# Altium footprint library sucaiku.PcbLib: 28 footprints (part 1 of 2)
Each footprint in its own frame and in the unit in brackets; x right, y up, seen from the top. Pads: shape width x height; smd on the part's side, far side on the other; paste and mask are expansions set on the pad; w line width, h text height; cw(c..) or ccw(c..) is an arc to the next point about the centre after c.
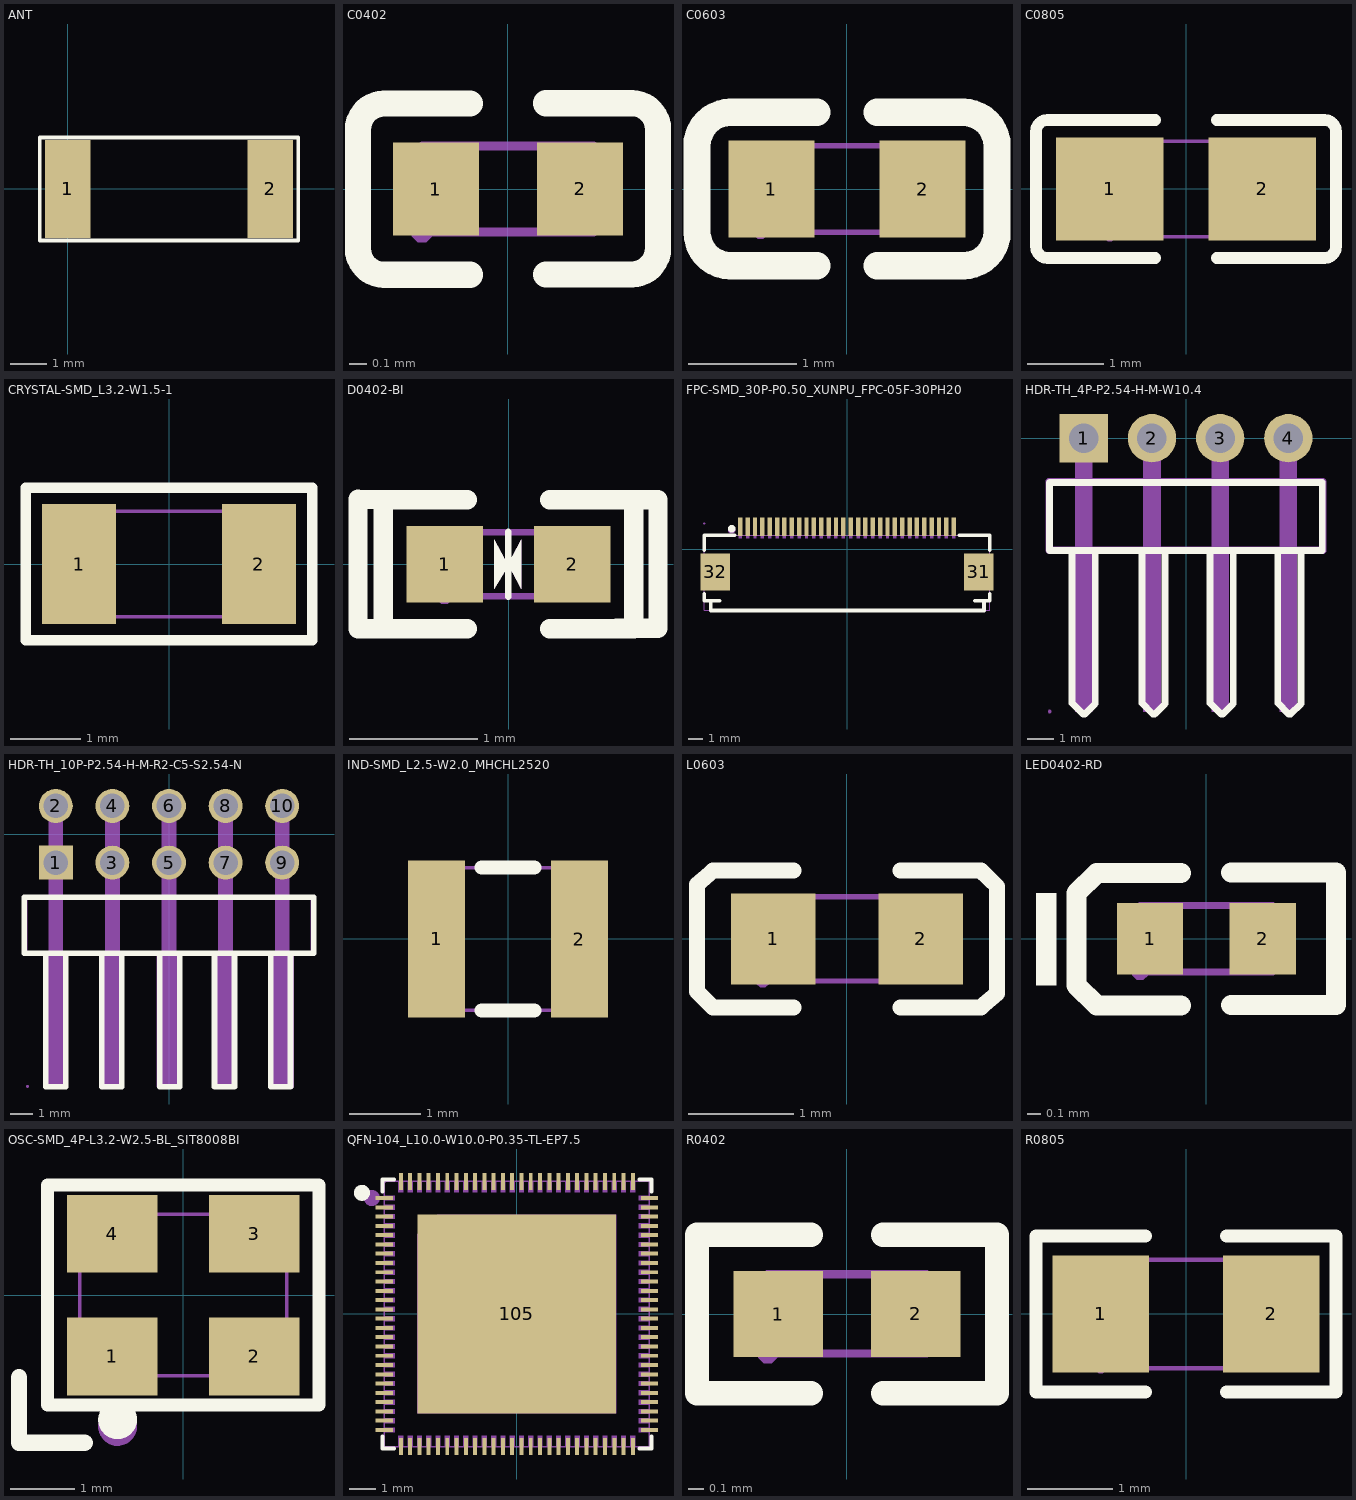
[diagram p0: the footprints below, top view; thin cyan lines are the x and y axes]

## ANT [mm]
pads (2):
  rect 1.225x2.65 smd: 1(0,0) 2(5.5,0)
Top Overlay:
  lines w0.1: -0.762,-1.4 6.262,-1.4 6.262,1.4 -0.762,1.4 -0.762,-1.4

## C0402 [mm]
pads (2):
  rect 0.5x0.54 smd paste+0.051: 1(-0.42,0) 2(0.42,0)
Top Overlay:
  lines w0.152: -0.221,-0.5 -0.721,-0.5 cw(c-0.721,-0.347) -0.874,-0.347 -0.874,0.345 cw(c-0.721,0.345) -0.721,0.498 -0.221,0.498 ; 0.221,-0.498 0.721,-0.498 ccw(c0.721,-0.345) 0.874,-0.345 0.874,0.347 ccw(c0.721,0.347) 0.721,0.5 0.221,0.5
Mechanical 7:
  lines w0.051: -0.5,-0.25 0.5,-0.25 0.5,0.25 -0.5,0.25 -0.5,-0.25
Mechanical 8:
  region: -0.44,-0.25 -0.44,-0.275 -0.475,-0.31 -0.525,-0.31 -0.56,-0.275 -0.56,-0.25 -0.56,-0.225 -0.525,-0.19 -0.475,-0.19 -0.44,-0.225 -0.44,-0.25
Mechanical 9:
  region: 0.5,-0.25 0.5,0.25 0.25,0.25 0.25,-0.25
  region: -0.5,-0.25 -0.5,0.25 -0.25,0.25 -0.25,-0.25

## C0603 [mm]
pads (2):
  rect 0.8x0.9 smd paste+0.051: 1(-0.7,0) 2(0.7,0)
Top Overlay:
  lines w0.254: -1.08,-0.71 -0.28,-0.71 ; -1.08,0.71 -0.28,0.71 ; -1.08,-0.71 cw(c-1.08,-0.4) -1.39,-0.4 -1.39,0.4 cw(c-1.08,0.4) -1.08,0.71 ; 0.28,-0.71 1.08,-0.71 ccw(c1.08,-0.4) 1.39,-0.4 ; 0.28,0.71 1.08,0.71 cw(c1.08,0.4) 1.39,0.4 ; 1.39,-0.4 1.39,0.4
Mechanical 7:
  lines w0.051: -0.8,-0.4 0.8,-0.4 0.8,0.4 -0.8,0.4 -0.8,-0.4
Mechanical 8:
  region: -0.74,-0.4 -0.74,-0.425 -0.775,-0.46 -0.825,-0.46 -0.86,-0.425 -0.86,-0.4 -0.86,-0.375 -0.825,-0.34 -0.775,-0.34 -0.74,-0.375 -0.74,-0.4
Mechanical 9:
  region: 0.8,-0.4 0.8,0.4 0.5,0.4 0.5,-0.4
  region: -0.8,-0.4 -0.8,0.4 -0.5,0.4 -0.5,-0.4

## C0805 [mm]
pads (2):
  rect 1.41x1.35 smd paste-100 mask+0.051: 1(-1,0) 2(1,0)
Top Overlay:
  lines w0.152: -1.964,0.751 cw(c-1.811,0.751) -1.811,0.904 ; -1.964,0.751 -1.964,-0.751 ccw(c-1.811,-0.751) -1.811,-0.904 -0.401,-0.904 ; -1.811,0.904 -0.401,0.904 ; 0.401,-0.904 1.811,-0.904 ccw(c1.811,-0.751) 1.964,-0.751 1.964,0.751 ccw(c1.811,0.751) 1.811,0.904 0.401,0.904
Top Paste:
  region: 1.705,0.64 1.705,-0.64 1.655,-0.69 0.505,-0.69 0.455,-0.64 0.45,-0.23 0.9,-0.23 0.9,0.22 0.46,0.22 0.455,0.64 0.505,0.69 1.655,0.69
  region: -1.705,-0.64 -1.705,0.64 -1.655,0.69 -0.505,0.69 -0.455,0.64 -0.45,0.23 -0.9,0.23 -0.9,-0.22 -0.46,-0.22 -0.455,-0.64 -0.505,-0.69 -1.655,-0.69
Mechanical 7:
  lines w0.051: -1,-0.625 1,-0.625 1,0.625 -1,0.625 -1,-0.625
Mechanical 8:
  region: -0.94,-0.625 -0.94,-0.65 -0.975,-0.685 -1.025,-0.685 -1.06,-0.65 -1.06,-0.625 -1.06,-0.6 -1.025,-0.565 -0.975,-0.565 -0.94,-0.6 -0.94,-0.625
Mechanical 9:
  region: 1,0.625 1,-0.625 0.5,-0.625 0.5,0.625
  region: -1,-0.625 -1,0.625 -0.5,0.625 -0.5,-0.625

## CRYSTAL-SMD_L3.2-W1.5-1 [mm]
height 1
pads (2):
  rect 1.05x1.7 smd paste+0.051: 1(-1.275,0) 2(1.275,0)
Top Overlay:
  lines w0.152: -2.029,-1.079 2.029,-1.079 2.029,1.079 -2.029,1.079 -2.029,-1.079
Mechanical 7:
  lines w0.051: -1.6,-0.75 1.6,-0.75 1.6,0.75 -1.6,0.75 -1.6,-0.75
Mechanical 8:
  region: -1.54,-0.75 -1.54,-0.775 -1.575,-0.81 -1.625,-0.81 -1.66,-0.775 -1.66,-0.75 -1.66,-0.725 -1.625,-0.69 -1.575,-0.69 -1.54,-0.725 -1.54,-0.75
Mechanical 9:
  region: 0.85,0.65 1.45,0.65 1.45,-0.65 0.85,-0.65
  region: -1.45,0.65 -0.85,0.65 -0.85,-0.65 -1.45,-0.65

## D0402-BI [mm]
pads (2):
  rect 0.6x0.6 smd paste-100 mask+0.051: 1(-0.5,0) 2(0.5,0)
Top Overlay:
  region: 0,0 0.1,0.19 0.1,-0.19
  region: 0,-0.01 -0.11,-0.19 -0.11,-0.01 -0.11,0.19
  lines w0.051: 0,-0.254 0,0.254
  lines w0.152: -1.17,-0.504 -0.981,-0.504 ; -0.975,-0.504 -1.178,-0.504 -1.178,0.508 -0.981,0.504 ; -0.324,0.504 -0.981,0.504 ; 0.324,-0.504 0.981,-0.504 0.981,0.504 ; 0.324,0.504 0.981,0.504 ; 0.847,-0.5 1.17,-0.5 1.17,0.504 0.981,0.504 ; -0.981,-0.504 -0.981,0.504 ; -0.981,-0.504 -0.324,-0.504 -0.981,-0.504 ; -0.981,-0.504 -0.981,0.504
Top Paste:
  region: 0.78,0.225 0.78,-0.225 0.73,-0.275 0.25,-0.275 0.18,-0.225 0.18,0.225 0.25,0.275 0.73,0.275
  region: -0.18,0.225 -0.18,-0.225 -0.25,-0.275 -0.73,-0.275 -0.78,-0.225 -0.78,0.225 -0.73,0.275 -0.25,0.275
Mechanical 6:
  region: 0,0 0.1,0.19 0.1,-0.19
  region: 0,-0.01 -0.11,-0.19 -0.11,-0.01 -0.11,0.19
Mechanical 7:
  lines w0.051: -0.5,-0.25 0.5,-0.25 0.5,0.25 -0.5,0.25 -0.5,-0.25
Mechanical 8:
  region: -0.44,-0.25 -0.44,-0.275 -0.475,-0.31 -0.525,-0.31 -0.56,-0.275 -0.56,-0.25 -0.56,-0.225 -0.525,-0.19 -0.475,-0.19 -0.44,-0.225 -0.44,-0.25
Mechanical 9:
  region: 0.25,0.25 0.5,0.25 0.5,-0.25 0.25,-0.25
  region: -0.25,-0.25 -0.5,-0.25 -0.5,0.25 -0.25,0.25

## FPC-SMD_30P-P0.50_XUNPU_FPC-05F-30PH20 [mm]
height 1
pads (32):
  rect 0.3x1.25 smd paste+0 mask+0.05: 1(-7.25,1.538) 2(-6.75,1.538) 3(-6.25,1.538) 4(-5.75,1.538) 5(-5.25,1.538) 6(-4.75,1.538) 7(-4.25,1.538) 8(-3.75,1.538) 9(-3.25,1.538) 10(-2.75,1.538) 11(-2.25,1.538) 12(-1.75,1.538) 13(-1.25,1.538) 14(-0.75,1.538) 15(-0.25,1.538) 16(0.25,1.538) 17(0.75,1.538) 18(1.25,1.538) 19(1.75,1.538) 20(2.25,1.538) 21(2.75,1.538) 22(3.25,1.538) 23(3.75,1.538) 24(4.25,1.538) 25(4.75,1.538) 26(5.25,1.538) 27(5.75,1.538) 28(6.25,1.538) 29(6.75,1.538) 30(7.25,1.538)
  rect 2x2.5 smd paste+0 mask+0.05: 31(8.94,-1.538) 32(-8.94,-1.538)
Top Overlay:
  circle w0.254: c-7.827,1.401 r0.127
  lines w0.254: -9.7,-3.019 -9.7,-3.5 -8.65,-3.5 ; -9.7,-0.056 -9.7,0.95 -7.631,0.95 ; -9.248,-3.5 -9.248,-4.15 9.3,-4.15 9.3,-3.55 ; 7.631,0.95 9.7,0.95 9.7,-0.056 ; 8.7,-3.5 9.7,-3.5 9.7,-3.019
Mechanical 6:
  circle w0.254: c-7.837,1.313 r0.127
Mechanical 7:
  lines w0.051: -9.7,-4.155 -9.7,0.965 9.7,0.965 9.7,-4.155 -9.7,-4.155
Mechanical 8:
  region: -9.64,1.755 -9.64,1.73 -9.675,1.695 -9.725,1.695 -9.76,1.73 -9.76,1.755 -9.76,1.78 -9.725,1.815 -9.675,1.815 -9.64,1.78 -9.64,1.755
Mechanical 9:
  drawing of 32 lines, arcs and shapes, not listed

## HDR-TH_4P-P2.54-H-M-W10.4 [mm]
pads (4):
  rect 1.8x1.8 hole 1.1 paste-2539.97: 1(-3.81,0)
  round 1.8 hole 1.1 paste-2539.97: 2(-1.27,0) 3(1.27,0) 4(3.81,0)
Top Overlay:
  lines w0.254: -5.09,-1.699 -5.09,-4.181 5.07,-4.181 5.07,-1.651 -5.09,-1.651 ; -3.84,-10.273 -4.244,-9.869 ; -3.764,-10.273 -3.383,-9.892 ; -1.644,-4.273 -1.644,-9.869 -1.24,-10.273 ; -1.164,-10.273 -0.783,-9.892 -0.783,-4.273 ; 1.299,-10.273 0.895,-9.869 ; 1.375,-10.273 1.756,-9.892 ; 3.417,-4.273 3.417,-9.869 3.821,-10.273 ; 3.897,-10.273 4.278,-9.892 4.278,-4.273 ; -4.244,-9.869 -4.244,-4.273 -4.244,-9.869 ; -3.383,-9.892 -3.383,-4.273 -3.383,-9.892 ; 0.895,-9.869 0.895,-4.273 0.895,-9.869 ; 1.756,-9.892 1.756,-4.273 1.756,-9.892
Mechanical 6:
  region: -4.973,-1.63 -4.973,-4.053 5.1,-4.053 5.153,-4.053 5.227,-4.127 5.227,-4.233 5.153,-4.307 5.1,-4.307 -5.1,-4.307 -5.125,-4.307 -5.172,-4.288 -5.208,-4.252 -5.227,-4.205 -5.227,-4.18 -5.227,-1.63 -5.227,-1.577 -5.153,-1.503 -5.047,-1.503 -4.973,-1.577 -4.973,-1.63
  region: 4.969,-4.177 4.969,-1.754 -5.104,-1.754 -5.156,-1.754 -5.231,-1.68 -5.231,-1.574 -5.156,-1.5 -5.104,-1.5 5.096,-1.5 5.122,-1.5 5.168,-1.519 5.204,-1.555 5.223,-1.602 5.223,-1.627 5.223,-4.177 5.223,-4.23 5.149,-4.304 5.044,-4.304 4.969,-4.23 4.969,-4.177
Mechanical 7:
  lines w0.051: -5.08,-4.18 5.08,-4.18 5.08,-1.64 -5.08,-1.64 -5.08,-4.18
Mechanical 8:
  region: -5.02,-10.18 -5.02,-10.205 -5.055,-10.24 -5.105,-10.24 -5.14,-10.205 -5.14,-10.18 -5.14,-10.155 -5.105,-10.12 -5.055,-10.12 -5.02,-10.155 -5.02,-10.18
Mechanical 9:
  region: -4.13,0.32 -3.49,0.32 -3.49,-0.32 -4.13,-0.32
  region: -1.59,0.32 -0.95,0.32 -0.95,-0.32 -1.59,-0.32
  region: 0.95,0.32 1.59,0.32 1.59,-0.32 0.95,-0.32
  region: 3.49,0.32 4.13,0.32 4.13,-0.32 3.49,-0.32
Mechanical 10:
  region: 3.49,0.32 3.49,-10.18 4.13,-10.18 4.13,0.32
  region: 0.95,0.32 0.95,-10.18 1.59,-10.18 1.59,0.32
  region: -1.59,0.32 -1.59,-10.18 -0.95,-10.18 -0.95,0.32
  region: -4.13,0.32 -4.13,-10.18 -3.49,-10.18 -3.49,0.32

## HDR-TH_10P-P2.54-H-M-R2-C5-S2.54-N [mil]
pads (10):
  rect 60x60 hole 43.31 paste-99999 mask+1.97: 1(-200,-50)
  round 60 hole 43.31 paste-99999 mask+1.97: 2(-200,50) 3(-100,-50) 4(-100,50) 5(0,-50) 6(0,50) 7(100,-50) 8(100,50) 9(200,-50) 10(200,50)
Top Overlay:
  lines w10: -217.5,-209.84 -217.5,-446.06 -182.29,-446.06 -182.29,-209.84 ; -118.5,-209.84 -118.5,-446.06 -83.29,-446.06 -83.29,-209.84 ; -16.5,-209.84 -16.5,-446.06 18.72,-446.06 18.72,-209.84 ; 80.5,-209.84 80.5,-446.06 115.71,-446.06 115.71,-209.84 ; 179.5,-209.84 179.5,-446.06 214.71,-446.06 214.71,-209.84 ; -255.91,-209.84 255.91,-209.84 255.91,-111.42 -255.91,-111.42 -255.91,-209.84
Mechanical 6:
  drawing of 5 lines, arcs and shapes, not listed
Mechanical 7:
  lines w2: -250,-209.84 -250,-111.41 250,-111.42 250,-209.84 -250,-209.84
Mechanical 8:
  region: -247.64,-445.28 -247.64,-446.25 -249.02,-447.64 -250.98,-447.64 -252.36,-446.25 -252.36,-445.27 -252.36,-444.3 -250.98,-442.91 -249.02,-442.91 -247.64,-444.3 -247.64,-445.28
Mechanical 9:
  region: 187.4,62.6 212.6,62.6 212.6,37.4 187.4,37.4
  region: 187.4,-37.4 212.6,-37.4 212.6,-62.6 187.4,-62.6
  region: 87.4,62.6 112.6,62.6 112.6,37.4 87.4,37.4
  region: 87.4,-37.4 112.6,-37.4 112.6,-62.6 87.4,-62.6
  region: -12.6,-37.4 12.6,-37.4 12.6,-62.6 -12.6,-62.6
  region: -112.6,62.6 -87.4,62.6 -87.4,37.4 -112.6,37.4
  region: -112.6,-37.4 -87.4,-37.4 -87.4,-62.6 -112.6,-62.6
  region: -212.6,62.6 -187.4,62.6 -187.4,37.4 -212.6,37.4
  region: -212.6,-37.4 -187.4,-37.4 -187.4,-62.6 -212.6,-62.6
  region: -12.6,62.6 12.6,62.6 12.6,37.4 -12.6,37.4
Mechanical 10:
  region: -12.6,62.6 12.6,62.6 12.6,-445.27 -12.6,-445.27
  region: -112.6,62.6 -87.4,62.6 -87.4,-445.27 -112.6,-445.28
  region: 87.4,62.6 112.6,62.6 112.6,-445.27 87.4,-445.27
  region: 187.4,62.6 212.6,62.6 212.6,-445.27 187.4,-445.27
  region: -212.6,62.6 -187.4,62.6 -187.4,-445.28 -212.6,-445.27

## IND-SMD_L2.5-W2.0_MHCHL2520 [mm]
pads (2):
  rect 0.8x2.2 smd paste+0.051: 1(-1,0) 2(1,0)
Top Overlay:
  lines w0.2: -0.369,-1 0.369,-1 ; -0.369,1 0.369,1
Mechanical 7:
  lines w0.051: -1.25,-1 -1.25,1 1.25,1 1.25,-1 -1.25,-1
Mechanical 8:
  region: -1.19,-1 -1.19,-1.025 -1.225,-1.06 -1.275,-1.06 -1.31,-1.025 -1.31,-1 -1.31,-0.975 -1.275,-0.94 -1.225,-0.94 -1.19,-0.975 -1.19,-1
Mechanical 9:
  region: -0.65,1 -0.65,-1 -1.25,-1 -1.25,1
  region: 1.25,1 1.25,-1 0.65,-1 0.65,1

## L0603 [mm]
pads (2):
  rect 0.8x0.864 smd paste-100 mask+0.051: 1(-0.7,0) 2(0.7,0)
Top Overlay:
  lines w0.152: -1.272,-0.65 -0.51,-0.65 ; -1.272,0.65 -0.51,0.65 ; -1.27,-0.651 -1.424,-0.499 -1.424,0.517 -1.27,0.65 ; 0.51,-0.65 1.272,-0.65 ; 0.51,0.65 1.272,0.65 ; 1.27,-0.65 1.424,-0.517 1.424,0.499 1.27,0.65
Top Paste:
  region: 0.264,0.154 0.264,-0.122 0.538,-0.416 1.042,-0.416 1.106,-0.352 1.106,0.384 1.042,0.448 0.538,0.448
  region: -0.252,0.143 -0.252,-0.134 -0.526,-0.427 -1.029,-0.427 -1.093,-0.363 -1.093,0.373 -1.029,0.437 -0.526,0.437
Mechanical 7:
  lines w0.051: -0.8,-0.4 -0.8,0.4 0.8,0.4 0.8,-0.4 -0.8,-0.4
Mechanical 8:
  region: -0.74,-0.4 -0.74,-0.425 -0.775,-0.46 -0.825,-0.46 -0.86,-0.425 -0.86,-0.4 -0.86,-0.375 -0.825,-0.34 -0.775,-0.34 -0.74,-0.375 -0.74,-0.4
Mechanical 9:
  region: -0.5,-0.4 -0.8,-0.4 -0.8,0.4 -0.5,0.4
  region: 0.8,-0.4 0.5,-0.4 0.5,0.4 0.8,0.4

## LED0402-RD [mm]
pads (2):
  rect 0.5x0.54 smd paste+0.051: 1(-0.425,0) 2(0.425,0)
Top Overlay:
  region: -1.133,-0.35 -1.132,0.343 -1.285,0.343 -1.285,-0.35
  lines w0.152: -0.191,-0.502 -0.828,-0.502 -0.98,-0.35 -0.98,0.343 -0.828,0.495 -0.191,0.495 ; 0.188,-0.499 0.977,-0.499 0.977,0.499 0.188,0.499
Mechanical 6:
  region: -0.44,-0.03 -0.44,0.03 -0.2,0.03 -0.2,-0.03
  region: 0.44,-0.03 0.44,0.03 0.2,0.03 0.2,-0.03
  region: 0.35,-0.2 0.35,0.2 0.29,0.2 0.29,-0.2
Mechanical 7:
  lines w0.051: -0.5,-0.25 -0.5,0.25 0.5,0.25 0.5,-0.25 -0.5,-0.25
Mechanical 8:
  region: -0.44,-0.25 -0.44,-0.275 -0.475,-0.31 -0.525,-0.31 -0.56,-0.275 -0.56,-0.25 -0.56,-0.225 -0.525,-0.19 -0.475,-0.19 -0.44,-0.225 -0.44,-0.25
Mechanical 9:
  region: -0.5,-0.25 -0.5,0.25 -0.3,0.25 -0.3,-0.25
  region: 0.5,-0.25 0.5,0.25 0.3,0.25 0.3,-0.25

## OSC-SMD_4P-L3.2-W2.5-BL_SIT8008BI [mm]
pads (4):
  rect 1.4x1.2 smd paste+0.051: 1(-1.1,-0.95) 2(1.1,-0.95) 3(1.1,0.95) 4(-1.1,0.95)
Top Overlay:
  lines w0.203: -2.1,-1.7 2.101,-1.7 2.101,1.7 -2.1,1.7 -2.1,-1.7
  lines w0.254: -2.54,-1.27 -2.54,-2.286 -1.524,-2.286
  lines w0.3: -1.016,-1.778 ccw(c-1.015,-1.928) -1.013,-1.778
Mechanical 6:
  circle w0.3: c-1.016,-2.032 r0.15
Mechanical 7:
  lines w0.051: -1.6,-1.25 1.6,-1.25 1.6,1.25 -1.6,1.25 -1.6,-1.25
Mechanical 8:
  region: -1.54,-1.25 -1.54,-1.275 -1.575,-1.31 -1.625,-1.31 -1.66,-1.275 -1.66,-1.25 -1.66,-1.225 -1.625,-1.19 -1.575,-1.19 -1.54,-1.225 -1.54,-1.25
Mechanical 9:
  region: 0.6,1.15 1.5,1.15 1.5,0.55 0.6,0.55
  region: -1.5,1.15 -0.6,1.15 -0.6,0.55 -1.5,0.55
  region: 0.6,-0.55 1.5,-0.55 1.5,-1.15 0.6,-1.15
  region: -1.5,-0.55 -0.6,-0.55 -0.6,-1.15 -1.5,-1.15

## QFN-104_L10.0-W10.0-P0.35-TL-EP7.5 [mm]
pads (105):
  rect 0.65x0.15 smd paste-100 mask+0.05: 1(-5,4.375) 2(-5,4.025) 3(-5,3.675) 4(-5,3.325) 5(-5,2.975) 6(-5,2.625) 7(-5,2.275) 8(-5,1.925) 9(-5,1.575) 10(-5,1.225) 11(-5,0.875) 12(-5,0.525) 13(-5,0.175) 14(-5,-0.175) 15(-5,-0.525) 16(-5,-0.875) 17(-5,-1.225) 18(-5,-1.575) 19(-5,-1.925) 20(-5,-2.275) 21(-5,-2.625) 22(-5,-2.975) 23(-5,-3.325) 24(-5,-3.675) 25(-5,-4.025) 26(-5,-4.375) 53(5,-4.375) 54(5,-4.025) 55(5,-3.675) 56(5,-3.325) 57(5,-2.975) 58(5,-2.625) 59(5,-2.275) 60(5,-1.925) 61(5,-1.575) 62(5,-1.225) 63(5,-0.875) 64(5,-0.525) 65(5,-0.175) 66(5,0.175) 67(5,0.525) 68(5,0.875) 69(5,1.225) 70(5,1.575) 71(5,1.925) 72(5,2.275) 73(5,2.625) 74(5,2.975) 75(5,3.325) 76(5,3.675) 77(5,4.025) 78(5,4.375)
  rect 0.15x0.65 smd paste-100 mask+0.05: 27(-4.375,-5) 28(-4.025,-5) 29(-3.675,-5) 30(-3.325,-5) 31(-2.975,-5) 32(-2.625,-5) 33(-2.275,-5) 34(-1.925,-5) 35(-1.575,-5) 36(-1.225,-5) 37(-0.875,-5) 38(-0.525,-5) 39(-0.175,-5) 40(0.175,-5) 41(0.525,-5) 42(0.875,-5) 43(1.225,-5) 44(1.575,-5) 45(1.925,-5) 46(2.275,-5) 47(2.625,-5) 48(2.975,-5) 49(3.325,-5) 50(3.675,-5) 51(4.025,-5) 52(4.375,-5) 79(4.375,5) 80(4.025,5) 81(3.675,5) 82(3.325,5) 83(2.975,5) 84(2.625,5) 85(2.275,5) 86(1.925,5) 87(1.575,5) 88(1.225,5) 89(0.875,5) 90(0.525,5) 91(0.175,5) 92(-0.175,5) 93(-0.525,5) 94(-0.875,5) 95(-1.225,5) 96(-1.575,5) 97(-1.925,5) 98(-2.275,5) 99(-2.625,5) 100(-2.975,5) 101(-3.325,5) 102(-3.675,5) 103(-4.025,5) 104(-4.375,5)
  rect 7.5x7.5 smd paste+0.051: 105(0,0)
Top Overlay:
  circle w0.3: c-5.842,4.572 r0.15
  lines w0.152: -5.076,-4.625 -5.076,-5.076 -4.625,-5.076 ; -5.076,4.625 -5.076,5.076 -4.625,5.076 ; 4.625,-5.076 5.076,-5.076 5.076,-4.625 ; 4.625,5.076 5.076,5.076 5.076,4.625
Top Paste:
  drawing of 104 lines, arcs and shapes, not listed
Mechanical 6:
  circle w0.3: c-5.471,4.375 r0.15
Mechanical 7:
  lines w0.051: -5,-5 5,-5 5,5 -5,5 -5,-5
Mechanical 8:
  region: -4.94,5 -4.94,4.975 -4.975,4.94 -5.025,4.94 -5.06,4.975 -5.06,5 -5.06,5.025 -5.025,5.06 -4.975,5.06 -4.94,5.025 -4.94,5
Mechanical 9:
  drawing of 209 lines, arcs and shapes, not listed

## R0402 [mm]
pads (2):
  rect 0.566x0.54 smd paste-100 mask+0.051: 1(-0.433,0) 2(0.433,0)
Top Overlay:
  lines w0.152: -0.226,-0.499 -0.944,-0.499 -0.944,0.499 -0.226,0.499 ; 0.226,-0.499 0.944,-0.499 0.944,0.499 0.226,0.499
Top Paste:
  region: -0.135,-0.23 -0.135,0.23 -0.175,0.27 -0.676,0.27 -0.716,0.23 -0.716,-0.23 -0.676,-0.27 -0.175,-0.27
  region: 0.135,-0.23 0.135,0.23 0.175,0.27 0.676,0.27 0.716,0.23 0.716,-0.23 0.676,-0.27 0.175,-0.27
Mechanical 7:
  lines w0.051: -0.5,-0.25 0.5,-0.25 0.5,0.25 -0.5,0.25 -0.5,-0.25
Mechanical 8:
  region: -0.44,-0.25 -0.44,-0.275 -0.475,-0.31 -0.525,-0.31 -0.56,-0.275 -0.56,-0.25 -0.56,-0.225 -0.525,-0.19 -0.475,-0.19 -0.44,-0.225 -0.44,-0.25
Mechanical 9:
  region: -0.249,0.25 -0.249,-0.25 -0.499,-0.25 -0.499,0.25
  region: 0.251,-0.25 0.251,0.25 0.501,0.25 0.501,-0.25

## R0805 [mm]
pads (2):
  rect 1.133x1.377 smd paste-100 mask+0.051: 1(-1,0) 2(1,0)
Top Overlay:
  lines w0.152: -0.476,-0.917 -1.761,-0.917 -1.761,0.917 -0.476,0.917 ; 0.476,-0.917 1.761,-0.917 1.761,0.917 0.476,0.917
Top Paste:
  region: -1.7,-0.64 -1.7,0.64 -1.65,0.69 -0.5,0.69 -0.45,0.64 -0.445,0.23 -0.895,0.23 -0.895,-0.22 -0.455,-0.22 -0.45,-0.64 -0.5,-0.69 -1.65,-0.69
  region: 0.45,-0.64 0.45,-0.22 0.895,-0.22 0.895,0.23 0.455,0.23 0.45,0.64 0.5,0.69 1.65,0.69 1.7,0.64 1.7,-0.64 1.65,-0.69 0.5,-0.69
Mechanical 7:
  lines w0.051: -1,-0.637 -1,0.637 1,0.637 1,-0.637 -1,-0.637
Mechanical 8:
  region: -0.94,-0.638 -0.94,-0.662 -0.975,-0.698 -1.025,-0.698 -1.06,-0.662 -1.06,-0.638 -1.06,-0.613 -1.025,-0.578 -0.975,-0.578 -0.94,-0.613 -0.94,-0.638
Mechanical 9:
  region: -1,-0.637 -1,0.637 -0.6,0.637 -0.6,-0.637
  region: 1,-0.637 1,0.637 0.6,0.637 0.6,-0.637